# Altium schematic symbol library InverterSCHLib.SchLib: 137 symbols (part 5 of 5)
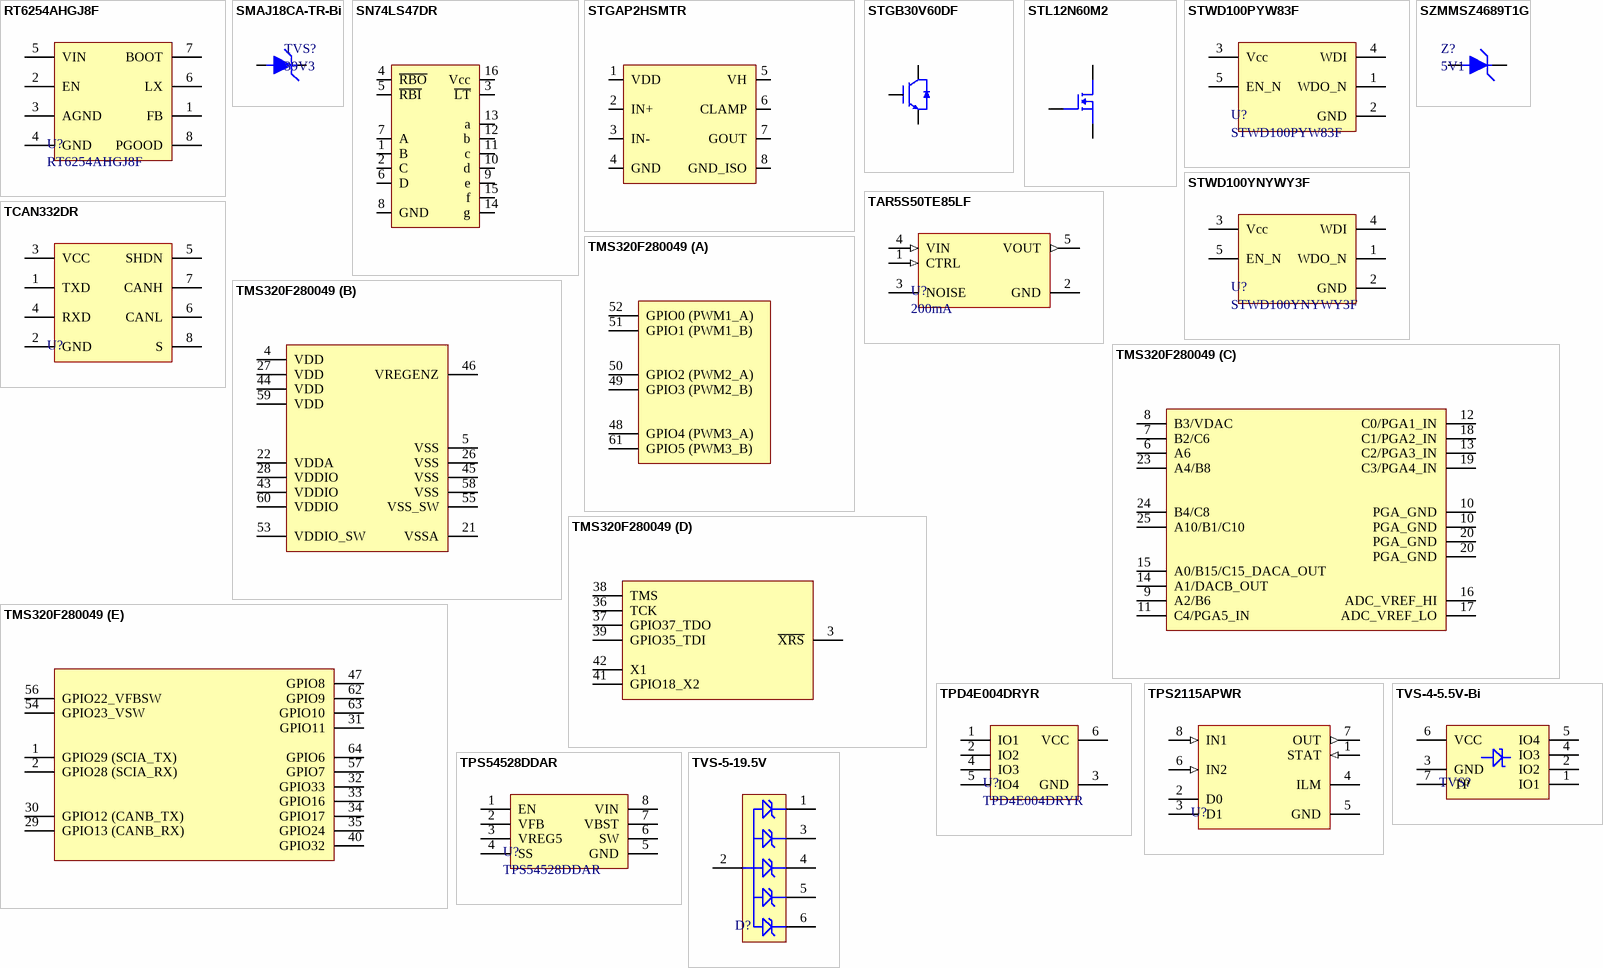
[diagram p7: symbols RT6254AHGJ8F to TVS-5-19.5V]

## TCAN332DR
designator U?  (value not drawn)
IC TRANSCEIVER 1/1 8SOIC; Manufacturer: Texas Instruments; Manufacturer Part Number: TCAN332DR; Data Rate: 1Mbps; Number of Transmit Buffers: 1; Min Supply Voltage: 3V; Max Supply Voltage: 3.6V; Receiver Hysteresis: 120mV; Supplier 1: Digi-Key; Stock 1: 31835; Pricing 1: 1=2.57, 10=2.312, 25=2.1808, 100=1.8582, 250=1.74476, 500=1.52666, 1000=1.44025 (USD); Mount: Surface Mount; Case/Package: SOIC; Number of Pins: 8; Min Operating Temperature: -40°C; Max Operating Temperature: 125°C; Packaging: Cut Tape; Number of Receive Buffers: 1; REACH SVHC: No SVHC; Lead Free: Lead Free; RoHS Compliant: Yes; ComponentLink1URL: http://www.ti.com/general/docs/lit/getliterature.tsp?genericPartNumber=TCAN332&amp;&amp;fileType=pdf&src-supplier=Farnell; ComponentLink1Description: http://www.ti.com/general/docs/lit/getliterature.tsp?genericPartNumber=TCAN332&amp;&amp;fileType=pdf&src-supplier=Farnell; ComponentLink2URL: http://www.ti.com/general/docs/lit/getliterature.tsp?genericPartNumber=TCAN332&&fileType=pdf&src-supplier=Element14; ComponentLink2Description: http://www.ti.com/general/docs/lit/getliterature.tsp?genericPartNumber=TCAN332&&fileType=pdf&src-supplier=Element14; ComponentLink3URL: http://www.ti.com/lit/ds/symlink/tcan332.pdf?src-supplier=Digi-Key; ComponentLink3Description: http://www.ti.com/lit/ds/symlink/tcan332.pdf?src-supplier=Digi-Key; ComponentLink4URL: http://www.ti.com/lit/gpn/tcan332?src-supplier=Mouser; ComponentLink4Description: http://www.ti.com/lit/gpn/tcan332?src-supplier=Mouser; Supplier Part Number 1: 296-43711-1-ND
footprint 8-SOIC_MCP2561 (SOIC, 8-Leads, Body 4.90x3.90mm, Pitch 1.27mm, IPC Medium Density)
pins: 1 TXD, 2 GND, 3 VCC, 4 RXD, 5 SHDN, 6 CANL, 7 CANH, 8 S

## TMS320F280049
designator U?, comment TMS320F280049PMS
IC MCU 32BIT 256KB FLASH 64LQFP; Manufacturer: Texas Instruments; Manufacturer Part Number: F280049CPMS; Number of UART Channels: 2; Interface: I2C,SPI,UART,USART,SCI; Peripherals: Brown-out Detect/Reset,POR,PWM,WDT; Frequency: 100MHz; Number of I/Os: 26; Oscillator Type: Internal; Supplier 1: Mouser; Stock 1: 0; Pricing 1: 1=10.7, 10=9.68, 50=9.23, 100=8.01, 1000=6.07, 10000=6.07 (USD); Case/Package: LQFP; Min Operating Temperature: -40°C; Max Operating Temperature: 125°C; Memory Type: FLASH; Packaging: Tray; Memory Size: 256KB; RoHS Compliant: Yes; ComponentLink1URL: http://www.ti.com/lit/pdf/sprui33?src-supplier=Digi-Key; ComponentLink1Description: http://www.ti.com/lit/pdf/sprui33?src-supplier=Digi-Key; Supplier Part Number 1: 595-F280049CPMS
footprint 64QFP (TSQFP, 64-Leads, Body 10.00x10.00mm, Pitch 0.50mm, IPC Medium Density)
part A pins: 48 GPIO4 (PWM3_A), 49 GPIO3 (PWM2_B), 50 GPIO2 (PWM2_A), 51 GPIO1 (PWM1_B), 52 GPIO0 (PWM1_A), 61 GPIO5 (PWM3_B)
part B pins: 4 VDD, 5 VSS, 21 VSSA, 22 VDDA, 26 VSS, 27 VDD, 28 VDDIO, 43 VDDIO, 44 VDD, 45 VSS, 46 VREGENZ, 53 VDDIO_SW, 55 VSS_SW, 58 VSS, 59 VDD, 60 VDDIO
part C pins: 6 A6, 7 B2/C6, 8 B3/VDAC, 9 A2/B6, 10 PGA_GND, 10 PGA_GND, 11 C4/PGA5_IN, 12 C0/PGA1_IN, 13 C2/PGA3_IN, 14 A1/DACB_OUT, 15 A0/B15/C15_DACA_OUT, 16 ADC_VREF_HI, 17 ADC_VREF_LO, 18 C1/PGA2_IN, 19 C3/PGA4_IN, 20 PGA_GND, 20 PGA_GND, 23 A4/B8, 24 B4/C8, 25 A10/B1/C10
part D pins: 3 ~{XRS}, 36 TCK, 37 GPIO37_TDO, 38 TMS, 39 GPIO35_TDI, 41 GPIO18_X2, 42 X1
part E pins: 1 GPIO29 (SCIA_TX), 2 GPIO28 (SCIA_RX), 29 GPIO13 (CANB_RX), 30 GPIO12 (CANB_TX), 31 GPIO11, 32 GPIO33, 33 GPIO16, 34 GPIO17, 35 GPIO24, 40 GPIO32, 47 GPIO8, 54 GPIO23_VSW, 56 GPIO22_VFBSW, 57 GPIO7, 62 GPIO9, 63 GPIO10, 64 GPIO6

## TPD4E004DRYR
designator U?
ESD Suppressor Diode Arrays 12KV 6-Pin USON T/R; Manufacturer: Texas Instruments; Direction: Unidirectional; Capacitance: 2pF; Number of Channels: 4; Reverse Standoff Voltage: 5.5V; Min Breakdown Voltage: 6V; Power Line Protection: Yes; Leakage Current: 1nA; Min Supply Voltage: 900mV; Interface: USB,Ethernet; Supplier 1: Digi-Key; Manufacturer Part Number: TPD4E004DRYR; Stock 1: 18647; Pricing 1: 1=0.6, 10=0.517, 100=0.3858, 500=0.30316, 1000=0.23426, 2000=0.2171 (USD); Number of Pins: 6; Min Operating Temperature: -40°C; Max Operating Temperature: 85°C; Packaging: Tape and Reel; Package Quantity: 1; Number of Bidirectional Channels: 4; Breakdown Voltage: 6V; Max Supply Voltage: 5.5V; Termination: SMD/SMT; Length: 1.5mm; Width: 1mm; Height: 0.5mm; Depth: 1.05mm; Radiation Hardening: No; REACH SVHC: No SVHC; Lead Free: Lead Free; RoHS Compliant: Yes; ComponentLink1URL: http://www.farnell.com/datasheets/1719847.pdf?src-supplier=Element14; ComponentLink1Description: http://www.farnell.com/datasheets/1719847.pdf?src-supplier=Element14; ComponentLink2URL: http://www.farnell.com/datasheets/1535400.pdf?src-supplier=Farnell; ComponentLink2Description: http://www.farnell.com/datasheets/1535400.pdf?src-supplier=Farnell; ComponentLink3URL: http://www.ti.com/lit/ds/symlink/tpd4e004.pdf?src-supplier=Digi-Key; ComponentLink3Description: http://www.ti.com/lit/ds/symlink/tpd4e004.pdf?src-supplier=Digi-Key; ComponentLink4URL: http://www.ti.com/general/docs/lit/getliterature.tsp?genericPartNumber=TPD4E004&amp;&amp;fileType=pdf&src-supplier=Newark; ComponentLink4Description: http://www.ti.com/general/docs/lit/getliterature.tsp?genericPartNumber=TPD4E004&amp;&amp;fileType=pdf&src-supplier=Newark; ComponentLink5URL: http://www.ti.com/general/docs/lit/getliterature.tsp?genericPartNumber=TPD4E004&&fileType=pdf&src-supplier=Avnet; ComponentLink5Description: http://www.ti.com/general/docs/lit/getliterature.tsp?genericPartNumber=TPD4E004&&fileType=pdf&src-supplier=Avnet; ComponentLink6URL: https://www.verical.com/server-webapp/html/getDatasheet?partID=48199&src-supplier=Verical; ComponentLink6Description: https://www.verical.com/server-webapp/html/getDatasheet?partID=48199&src-supplier=Verical; Supplier Part Number 1: 296-23618-1-ND
pins: 1 IO1, 2 IO2, 3 GND, 4 IO3, 5 IO4, 6 VCC

## TPS2115APWR
designator U?  (value not drawn)
IC OR CTRLR SRC SELECT 8TSSOP; Manufacturer: Texas Instruments; Manufacturer Part Number: TPS2115APWR; Number of Outputs: 1; Number of Inputs: 2; Output Current: 1.25A; Max Power Dissipation: 387mW; Max Input Voltage: 5.5V; Min Input Voltage: 2.8V; Turn-On Delay Time: 1ms; Turn-Off Delay Time: 5ms; Operating Supply Current: 55uA; On-State Resistance: 84mR; Output Voltage: 6V; Supplier 1: Digi-Key; Stock 1: 19599; Pricing 1: 1=2.48, 10=2.225, 25=2.0988, 100=1.7882, 250=1.67904, 500=1.46916, 1000=1.32264 (USD); Case/Package: TSSOP; Number of Pins: 8; Weight: 0.001376oz; Min Operating Temperature: -40°C; Max Operating Temperature: 85°C; Package Quantity: 2000; Packaging: Tape and Reel; Max Output Current: 1.25A; Current - Output 2: 1.25A; Operating Supply Voltage: 5.5V; Series: TPS2115A; Radiation Hardening: No; REACH SVHC: No SVHC; Lead Free: Lead Free; RoHS Compliant: Yes; ComponentLink1URL: http://www.ti.com/lit/ds/symlink/tps2115a.pdf?src-supplier=Newark; ComponentLink1Description: http://www.ti.com/lit/ds/symlink/tps2115a.pdf?src-supplier=Newark; ComponentLink2URL: http://www.ti.com/lit/ds/symlink/tps2114a.pdf?src-supplier=Digi-Key; ComponentLink2Description: http://www.ti.com/lit/ds/symlink/tps2114a.pdf?src-supplier=Digi-Key; ComponentLink3URL: http://www.ti.com/general/docs/lit/getliterature.tsp?genericPartNumber=TPS2115A&&fileType=pdf&src-supplier=Avnet; ComponentLink3Description: http://www.ti.com/general/docs/lit/getliterature.tsp?genericPartNumber=TPS2115A&&fileType=pdf&src-supplier=Avnet; ComponentLink4URL: https://www.verical.com/server-webapp/html/getDatasheet?partID=237877&src-supplier=Verical; ComponentLink4Description: https://www.verical.com/server-webapp/html/getDatasheet?partID=237877&src-supplier=Verical; Supplier Part Number 1: 296-16940-1-ND
footprint 8-TSSOP-POW-SW (TSOP, 8-Leads, Body 3.00x4.40mm, Pitch 0.65mm, IPC Medium Density)
pins: 1 STAT (in), 2 D0, 3 D1, 4 ILM, 5 GND, 6 IN2 (in), 7 OUT (out), 8 IN1 (in)

## TPS54528DDAR
designator U?
IC REG BUCK ADJ 5A SYNC 8SOPWR; Manufacturer: Texas Instruments; Number of Outputs: 1; Output Voltage: 6V; Max Output Current: 5mA; Min Input Voltage: 4.5V; Max Input Voltage: 18V; Switching Frequency: 650kHz; Min Output Voltage: 760mV; Synchronous Rectifier: Yes; Quiescent Current: 900uA; Output Type: Adjustable; Output Configuration: Positive; Supplier 1: Digi-Key; Stock 1: 4475; Pricing 1: 1=1.78, 10=1.601, 25=1.5104, 100=1.2869, 250=1.2084, 500=1.05736, 1000=0.9519 (USD); Mount: Surface Mount; Case/Package: HSOP; Number of Pins: 8; Min Operating Temperature: -40°C; Max Operating Temperature: 85°C; Packaging: Tape and Reel; Output Current: 5A; Package Quantity: 2500; Max Output Voltage: 6V; Operating Supply Voltage: 18V; Series: D-CAP2™, Eco-Mode™; Lead Free: Lead Free; RoHS Compliant: Yes; ComponentLink1URL: http://www.ti.com/lit/ds/symlink/tps54528.pdf?src-supplier=Digi-Key; ComponentLink1Description: http://www.ti.com/lit/ds/symlink/tps54528.pdf?src-supplier=Digi-Key; ComponentLink2URL: http://www.ti.com/lit/gpn/tps54528?src-supplier=Mouser; ComponentLink2Description: http://www.ti.com/lit/gpn/tps54528?src-supplier=Mouser; Supplier Part Number 1: 296-29482-1-ND; Manufacturer Part Number: TPS54528DDAR
footprint 8-SOIC W THRM (SOIC, 8-Leads, Body 4.90x3.90mm, Pitch 1.27mm, Thermal Pad 3.20x2.50mm, IPC Medium Density)
pins: 1 EN, 2 VFB, 3 VREG5, 4 SS, 5 GND, 6 SW, 7 VBST, 8 VIN

## TVS-4-5.5V-Bi
designator TVS?  (value not drawn)
TVS DIODE 5.5V 6SON; Manufacturer: Texas Instruments; Manufacturer Part Number: TPD4E001DRSR; Direction: Unidirectional; Capacitance: 1.5pF; Number of Channels: 4; Min Breakdown Voltage: 11V; Peak Pulse Power: 100W; Power Line Protection: Yes; Clamping Voltage: 105.5V; Leakage Current: 1nA; Test Current: 10mA; Peak Pulse Current: 5.5A; Interface: LVDS,USB,Ethernet; Supplier 1: Digi-Key; Stock 1: 16747; Pricing 1: 1=0.67, 10=0.576, 100=0.4304, 500=0.33814 (USD); Number of Pins: 6; Min Operating Temperature: -40°C; Max Operating Temperature: 85°C; Packaging: Tape and Reel; Package Quantity: 1000; Operating Supply Voltage: 5.5V; Number of Bidirectional Channels: 4; Reverse Standoff Voltage: 5.5V; Termination: SMD/SMT; Working Voltage: 5.5V; Max Power Dissipation: 100W; ESD Protection: Yes; Max Reverse Leakage Current: 1nA; Length: 3mm; Width: 3.15mm; Height: 0.75mm; Depth: 3mm; Radiation Hardening: No; REACH SVHC: No SVHC; Lead Free: Lead Free; ComponentLink1URL: http://www.ti.com/lit/ds/symlink/tpd4e001.pdf?src-supplier=Digi-Key; ComponentLink1Description: http://www.ti.com/lit/ds/symlink/tpd4e001.pdf?src-supplier=Digi-Key; ComponentLink2URL: https://www.verical.com/server-webapp/html/getDatasheet?partID=143410&src-supplier=Verical; ComponentLink2Description: https://www.verical.com/server-webapp/html/getDatasheet?partID=143410&src-supplier=Verical; ComponentLink3URL: http://focus.ti.com/lit/ds/symlink/tpd4e001.pdf?src-supplier=Avnet+Europe; ComponentLink3Description: http://focus.ti.com/lit/ds/symlink/tpd4e001.pdf?src-supplier=Avnet+Europe; Supplier Part Number 1: 296-22852-1-ND
footprint TVS-DRS-TP-5 (SON, 6-Leads, Body 3.00x3.00mm, Pitch 0.95mm, Thermal Pad 1.90x1.20mm, IPC Medium Density)
pins: 1 IO1, 2 IO2, 3 GND, 4 IO3, 5 IO4, 6 VCC, 7 TP

## TVS-5-19.5V
designator D?  (value not drawn)
TVS DIODE 5VWM 19.5VC 6X2SON; Manufacturer: Texas Instruments; Manufacturer Part Number: TPD5E003DPFR; Capacitance: 8.4pF; Operating Supply Voltage: 5.5V; Direction: Unidirectional; Number of Unidirectional Channels: 5; Number of Bidirectional Channels: 4; Reverse Standoff Voltage: 5V; Min Breakdown Voltage: 6V; Clamping Voltage: 15.6V; Peak Pulse Power: 40W; Power Line Protection: No; Peak Pulse Current: 10A; Diode Type: ZENER; Supplier 1: Digi-Key; Stock 1: 6728; Pricing 1: 1=0.59, 10=0.509, 100=0.3799, 500=0.2985, 1000=0.23066, 2000=0.21376 (USD); Mount: Surface Mount; Number of Pins: 6; Min Operating Temperature: -40°C; Max Operating Temperature: 125°C; Package Quantity: 5000; Packaging: Tape and Reel; Breakdown Voltage: 6V; Number of Channels: 5; Termination: SMD/SMT; Polarity: Unidirectional; Working Voltage: 5V; Max Power Dissipation: 40W; Resistor Type: Zener; Series: -; Lead Free: Lead Free; RoHS Compliant: Yes; ComponentLink1URL: http://www.ti.com/lit/ds/symlink/tpd5e003.pdf?src-supplier=Digi-Key; ComponentLink1Description: http://www.ti.com/lit/ds/symlink/tpd5e003.pdf?src-supplier=Digi-Key; Supplier Part Number 1: 296-43577-1-ND
footprint TVS-5 (SON, 6-Leads, Body 1.00x1.00mm, Pitch 0.35mm, IPC Medium Density)
pins: 1, 2 GND, 3, 4, 5, 6